# Altium footprint library 电机驱动PCB库.PcbLib: 15 footprints
Each footprint in its own frame and in the unit in brackets; x right, y up, seen from the top. Pads: shape width x height; smd on the part's side, far side on the other; paste and mask are expansions set on the pad; w line width, h text height; cw(c..) or ccw(c..) is an arc to the next point about the centre after c.
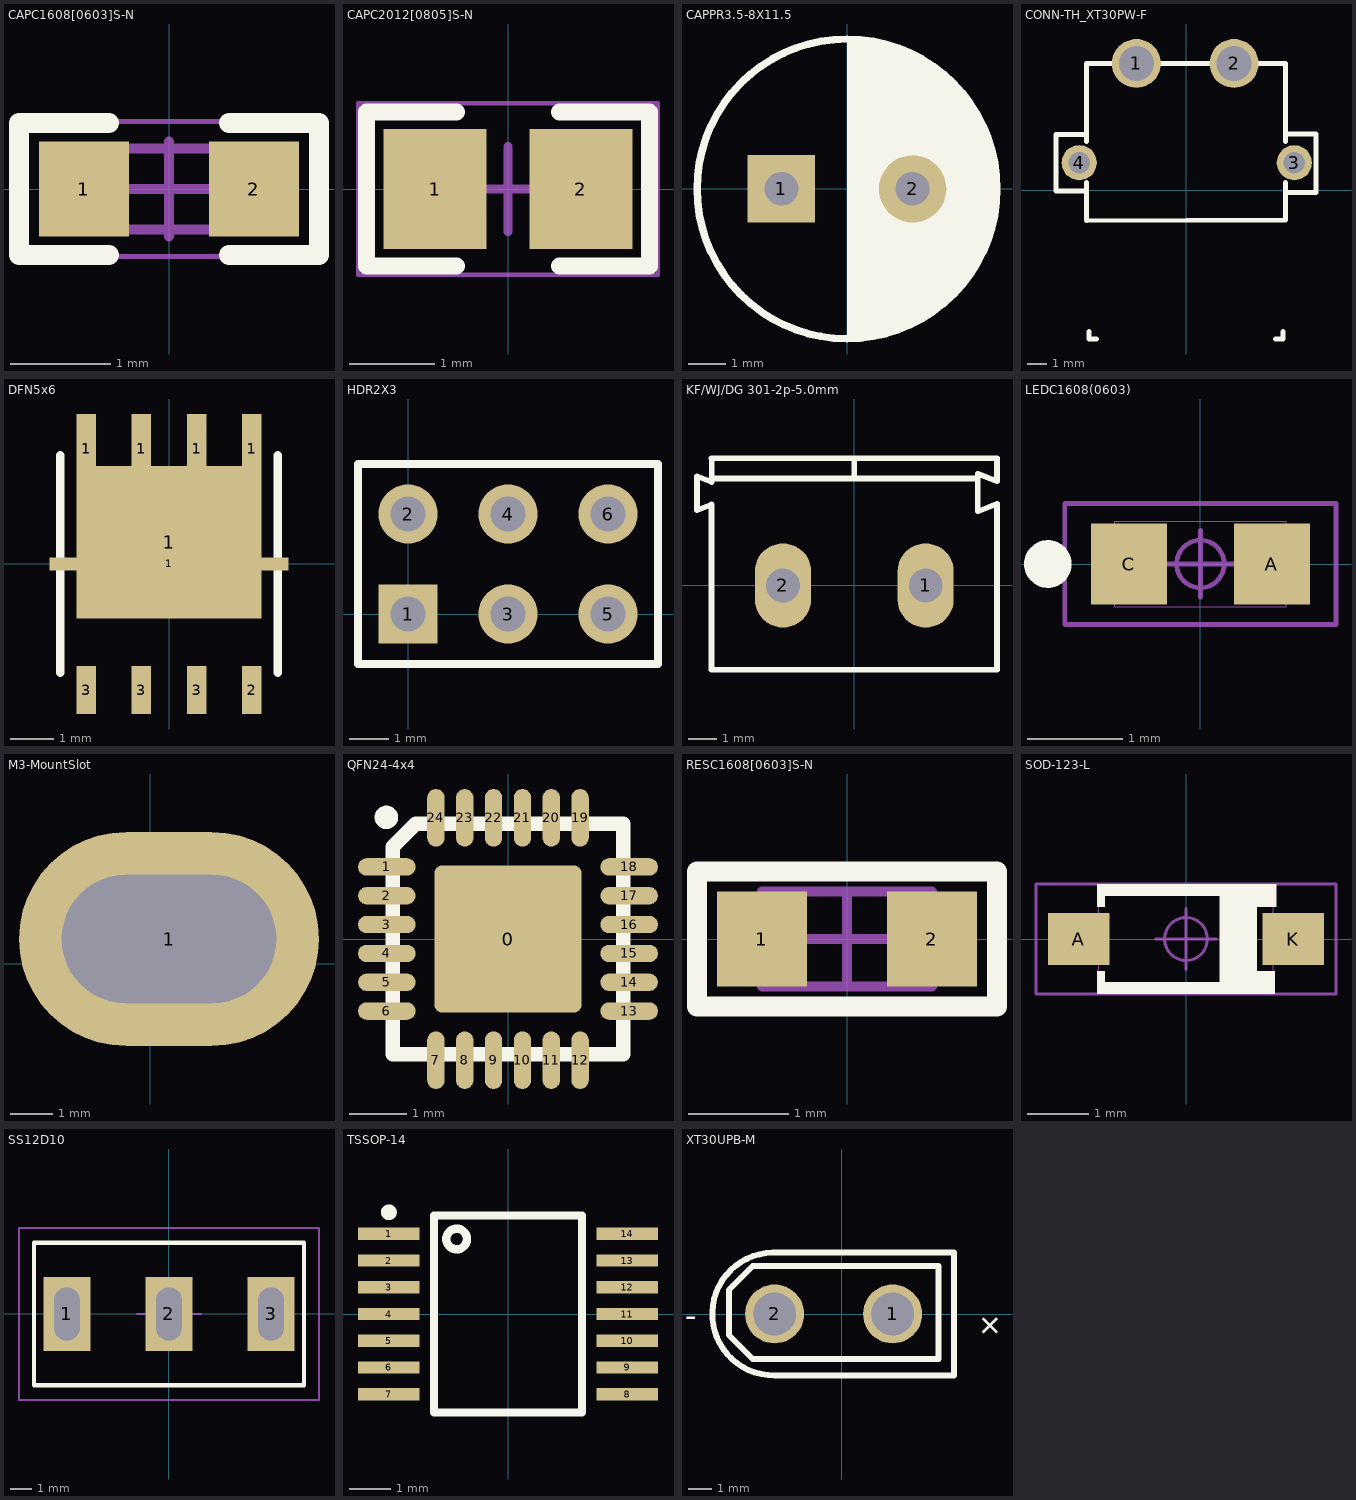
[diagram p0: the footprints below, top view; thin cyan lines are the x and y axes]

## CAPC1608[0603]S-N [mm]
pads (2):
  rect 0.9x0.95 smd: 1(-0.85,0) 2(0.85,0)
Top Overlay:
  lines w0.2: -0.6,-0.66 -1.499,-0.66 -1.499,0.66 -0.6,0.66 ; 0.6,-0.66 1.499,-0.66 1.499,0.66 0.6,0.66
Mechanical 13:
  lines w0.1: -0.8,-0.406 -0.8,0.406 0.825,0.406 0.825,-0.406 -0.8,-0.406
Mechanical 15:
  lines w0.05: -1.5,-0.675 1.5,-0.675 1.5,0.675 -1.5,0.675 -1.5,-0.675
  lines w0.1: -0.475,0 0.475,0 ; 0,-0.475 0,0.475
3D body: height 0.79, standoff 0, extent -0.45,-0.406 0.45,0.406
3D body: height 0.79, standoff 0, extent 0.45,-0.406 0.8,0.407
3D body: height 0.79, standoff 0, extent -0.8,-0.406 -0.45,0.406

## CAPC2012[0805]S-N [mm]
pads (2):
  rect 1.2x1.4 smd: 1(-0.85,0) 2(0.85,0)
Top Overlay:
  lines w0.2: -0.6,-0.9 -1.65,-0.9 -1.65,0.9 -0.6,0.9 ; 0.6,-0.9 1.65,-0.9 1.65,0.9 0.6,0.9
Mechanical 15:
  lines w0.05: -1.75,-1 1.75,-1 1.75,1 -1.75,1 -1.75,-1
  lines w0.1: -0.5,0 0.5,0 ; 0,-0.5 0,0.5
3D body "capacitor_rnd1500805b106k6r3.stp": height 1.25, standoff 0, extent -1,-0.627 1,0.623

## CAPPR3.5-8X11.5 [mm]
pads (2):
  rect 1.8x1.8 hole 0.9: 1(-1.75,0)
  round 1.8 hole 0.9: 2(1.75,0)
Top Overlay:
  circle w0.2: c0,0 r4
  region: 0,-4.006 0,3.994 0.315,3.994 0.937,3.895 1.535,3.701 2.096,3.415 2.606,3.045 3.051,2.6 3.421,2.09 3.707,1.529 3.902,0.93 4,0.309 4,-0.321 3.902,-0.943 3.707,-1.542 3.421,-2.103 3.051,-2.612 2.606,-3.057 2.096,-3.427 1.535,-3.713 0.937,-3.908 0.315,-4.006
3D body "CAPR3.5-8-11.5.STEP": height 11.5, standoff -2.5, extent -4,-3.984 4,3.985

## CONN-TH_XT30PW-F [mm]
pads (4):
  round 2.5 hole 1.8 paste+0 mask+0.051: 1(-2.54,6.487) 2(2.46,6.487)
  round 1.8 hole 1.1 paste+0 mask+0.051: 3(5.539,1.407) 4(-5.461,1.407)
Top Overlay:
  lines w0.254: -5.08,-0.04 -6.65,-0.04 -6.65,2.855 -5.08,2.855 ; -5.08,0.39 -5.08,-1.561 5.08,-1.516 ; -5.08,2.49 -5.08,6.487 5.08,6.487 5.08,2.49 ; -4.953,-7.229 -4.953,-7.61 -4.572,-7.61 ; 4.572,-7.61 4.953,-7.61 4.953,-7.229 ; 5.08,-1.434 5.08,0.39 ; 5.08,-0.11 6.65,-0.11 6.65,2.881 5.08,2.881

## DFN5x6 [mm]
pads (10):
  rect 0.45x1.6 smd: 1(-1.905,2.65) 1(-0.635,2.65) 1(0.635,2.65) 1(1.905,2.65)
  rect 5.5x0.3 smd: 1(0,0)
  rect 4.25x3.5 smd: 1(0,0.5)
  rect 0.45x1.1 smd: 2(1.905,-2.9) 3(-1.905,-2.9) 3(-0.635,-2.9) 3(0.635,-2.9)
Top Overlay:
  lines w0.2: -2.5,-2.5 -2.5,2.5 ; 2.5,-2.5 2.5,2.5
3D body "User Library-SON5x6.STEP": height 1, standoff 0, extent -2.45,-3 2.45,3

## HDR2X3 [mm]
pads (6):
  rect 1.5x1.5 hole 0.9: 1(0,0)
  round 1.5 hole 0.9: 2(0,2.54) 3(2.54,0) 4(2.54,2.54) 5(5.08,0) 6(5.08,2.54)
Top Overlay:
  lines w0.2: 1.482,-1.27 6.35,-1.27 ; 6.35,-1.27 -1.27,-1.27 -1.27,3.81 6.35,3.81 6.35,-1.27
3D body "HDR2x3.STEP": height 8.54, standoff -3, extent -1.27,-1.27 6.35,3.81

## KF/WJ/DG 301-2p-5.0mm [mm]
pads (2):
  oval 2x3 hole 1.2: 1(2.54,0) 2(-2.54,0)
Top Overlay:
  lines w0.2: -5.08,2.879 -5.6,2.676 -5.6,3.886 -5.08,3.683 -5.08,4.525 ; 5.08,-2.997 5.08,2.904 4.394,2.636 4.394,3.976 5.08,3.708 5.08,4.525
  lines w0.203: -5.08,2.879 -5.08,-2.997 5.08,-2.997 ; -5.08,3.81 4.365,3.81 ; -5.08,4.525 5.08,4.525 ; 0,3.81 0,4.445
3D body "Terminal-Screw-3A-2way.step": height 10, standoff -3, extent -5.6,-3 5,4.6

## LEDC1608(0603) [mm]
pads (2):
  rect 0.8x0.85 smd: A(0.75,0) C(-0.75,0)
Top Overlay:
  circle w0.25: c-1.6,0 r0.125
Mechanical 15:
  circle w0.05: c0,0 r0.25
  lines w0.001: -0.9,-0.45 -0.9,0.45 0.9,0.45 0.9,-0.45 -0.9,-0.45
  lines w0.05: -0.348,0 0.352,0 ; 0,-0.348 0,0.352 ; -1.422,-0.635 -1.422,0.635 1.422,0.635 1.422,-0.635 -1.422,-0.635
3D body "0603 (1608) LED Base (Separate Lens).STEP": height 0.64, standoff 0, extent -0.8,-0.4 0.8,0.4
3D body: height 0.64, standoff 0, extent -0.559,-0.4 0.559,0.4

## M3-MountSlot [mm]
pads (1):
  oval 7x5 hole 3 slot 5 at 0 deg: 1(0.436,0.579)

## QFN24-4x4 [mm]
pads (25):
  rrect10% 2.55x2.55 smd: 0(0,0)
  oval 1x0.3 smd: 1(-2.1,1.25) 2(-2.1,0.75) 3(-2.1,0.25) 4(-2.1,-0.25) 5(-2.1,-0.75) 6(-2.1,-1.25) 13(2.1,-1.25) 14(2.1,-0.75) 15(2.1,-0.25) 16(2.1,0.25) 17(2.1,0.75) 18(2.1,1.25)
  oval 0.3x1 smd: 7(-1.25,-2.1) 8(-0.75,-2.1) 9(-0.25,-2.1) 10(0.25,-2.1) 11(0.75,-2.1) 12(1.25,-2.1) 19(1.25,2.1) 20(0.75,2.1) 21(0.25,2.1) 22(-0.25,2.1) 23(-0.75,2.1) 24(-1.25,2.1)
Top Overlay:
  circle w0.203: c-2.108,2.108 r0.102
  lines w0.254: -2,-2 -2,1.6 -1.6,2 2,2 2,-2 -2,-2
3D body "User Library-QFN 24 4x4.step": height 0.9, standoff 0, extent -2.002,-2.002 2.002,2.002

## RESC1608[0603]S-N [mm]
pads (2):
  rect 0.9x0.95 smd: 1(-0.85,0) 2(0.85,0)
Top Overlay:
  lines w0.2: -1.5,-0.675 -1.5,0.675 1.499,0.675 1.499,-0.675 -1.5,-0.675
Mechanical 13:
  lines w0.1: -0.85,-0.475 -0.85,0.475 0.85,0.475 0.85,-0.475 -0.85,-0.475
Mechanical 15:
  lines w0.05: -1.5,-0.675 -1.5,0.675 1.5,0.675 1.5,-0.675 -1.5,-0.675
  lines w0.1: -0.475,0 0.475,0 ; 0,-0.475 0,0.475
3D body "R0603.STEP": height 0.45, standoff 0, extent -0.8,-0.4 0.8,0.4

## SOD-123-L [mm]
pads (2):
  rect 1x0.85 smd: A(-1.75,0) K(1.75,0)
Top Overlay:
  rectangle: 0.55,-0.8 1.16,0.8
  rectangle: -1.45,0.525 -1.325,0.9
  region: -1.325,-0.525 -1.45,-0.525 -1.45,-0.9 -1.325,-0.9
  rectangle: 0.9,0.525 1.475,0.9
  region: 1.45,-0.525 0.85,-0.525 0.85,-0.9 1.45,-0.9
  lines w0.2: -1.35,-0.8 1.35,-0.8 ; -1.35,0.8 1.35,0.8
Mechanical 15:
  circle w0.05: c0,0 r0.35
  lines w0.001: -1.425,-0.9 -1.425,0.9 1.425,0.9 1.425,-0.9 -1.425,-0.9
  lines w0.05: -0.5,0 0.5,0 ; 0,-0.5 0,0.5 ; -2.45,-0.9 -2.45,0.9 2.45,0.9 2.45,-0.9 -2.45,-0.9
3D body "SOD-123.STEP": height 1.2, standoff 0, extent -1.85,-0.8 1.85,0.8

## SS12D10 [mm]
pads (3):
  rect 2.2x3.5 hole 1.2 slot 2.5 at 90 deg mask+0.07: 1(-4.8,0) 2(0,0) 3(4.8,0)
Top Overlay:
  lines w0.2: -6.35,-3.35 6.35,-3.35 6.35,3.35 -6.35,3.35 -6.35,-3.3
Mechanical 15:
  circle w0.1: c0,0 r0.813
  lines w0.1: -1.5,0 1.5,0 ; 0,-1.5 0,1.5 ; -7.05,-4.05 -7.05,4.05 7.05,4.05 7.05,-4.05 -7.05,-4.05
3D body "ms-13aap1.stp": height 12.5, standoff -5.4, extent -6.4,-3.3 6.35,3.8

## TSSOP-14 [mm]
pads (14):
  rect 1.5x0.3 smd mask+0.07: 1(-2.9,1.95) 2(-2.9,1.3) 3(-2.9,0.65) 4(-2.9,0) 5(-2.9,-0.65) 6(-2.9,-1.3) 7(-2.9,-1.95) 8(2.9,-1.95) 9(2.9,-1.3) 10(2.9,-0.65) 11(2.9,0) 12(2.9,0.65) 13(2.9,1.3) 14(2.9,1.95)
Top Overlay:
  circle w0.203: c-2.9,2.475 r0.092
  circle w0.203: c-1.25,1.825 r0.251
  lines w0.2: -1.8,-2.4 -1.8,2.4 1.8,2.4 1.8,-2.4 -1.8,-2.4
3D body "TSSOP14.stp": height 1.13, standoff 0, extent -3.2,-2.5 3.2,2.5

## XT30UPB-M [mm]
pads (2):
  round 2.5 hole 1.8 slot 1.805 at 0 deg paste+0 mask+0.051: 1(2.155,0) 2(-2.845,0)
Top Overlay:
  lines w0.254: -4.79,-0.889 -3.774,-1.905 4.1,-1.905 4.1,2.032 -3.774,2.032 -4.79,1.016 -4.79,-0.889 ; -2.942,2.6 ccw(c-2.889,0) -2.851,-2.6 4.755,-2.6 4.755,2.6 -2.942,2.6
  text "+" at 5.576,-0.382 h1
  text "-" at -6.136,0.195 h1